# Altium footprint library ORJ3FCR6842032R.PcbLib: 1 footprints
Each footprint in its own frame and in the unit in brackets; x right, y up, seen from the top. Pads: shape width x height; smd on the part's side, far side on the other; paste and mask are expansions set on the pad; w line width, h text height; cw(c..) or ccw(c..) is an arc to the next point about the centre after c.
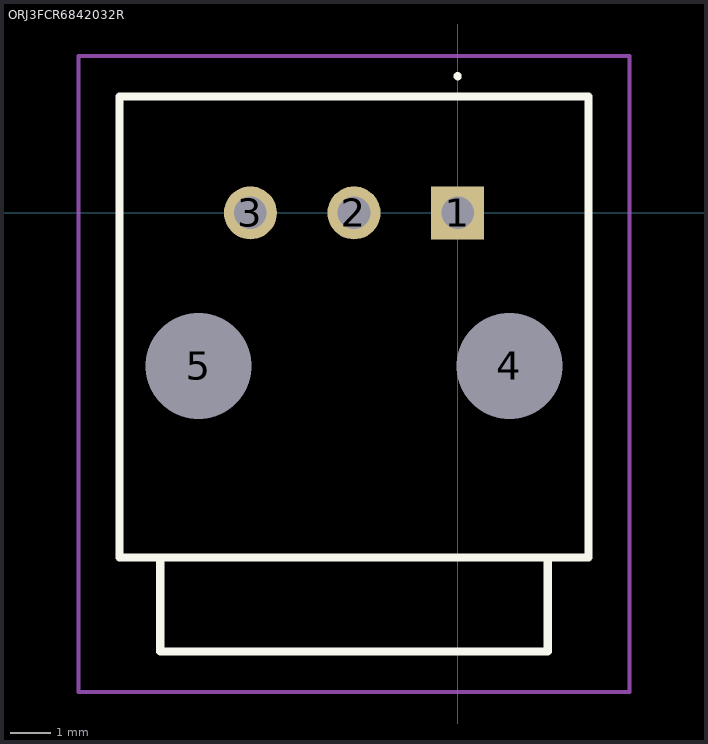
[diagram p0: the footprint, top view; thin cyan lines are the x and y axes]

## ORJ3FCR6842032R [mm]
pads (5):
  rect 1.3x1.3 hole 0.8: 1(0,0)
  round 1.3 hole 0.8: 2(-2.54,0) 3(-5.08,0)
  round 1.3 hole 2.6 unplated: 4(1.27,-3.75) 5(-6.35,-3.75)
Top Overlay:
  lines w0.1: 0,3.3 0,3.3 ; 0,3.3 ccw(c0,3.35) 0,3.4 ; 0,3.3 cw(c0,3.35) 0,3.4 ; 0,3.4 0,3.4
  lines w0.2: -7.29,-8.45 -7.29,-10.75 2.21,-10.75 2.21,-8.45 ; -8.29,-8.45 3.21,-8.45 3.21,2.85 -8.29,2.85 -8.29,-8.45
Mechanical 15:
  lines w0.1: -7.29,-8.45 -7.29,-10.75 2.21,-10.75 2.21,-8.45 ; -8.29,-8.45 3.21,-8.45 3.21,2.85 -8.29,2.85 -8.29,-8.45
Mechanical 20:
  lines w0.1: -9.29,-11.75 4.21,-11.75 4.21,3.85 -9.29,3.85 -9.29,-11.75